# Altium footprint library HC-49.PcbLib: 3 footprints
Each footprint in its own frame and in the unit in brackets; x right, y up, seen from the top. Pads: shape width x height; smd on the part's side, far side on the other; paste and mask are expansions set on the pad; w line width, h text height; cw(c..) or ccw(c..) is an arc to the next point about the centre after c.
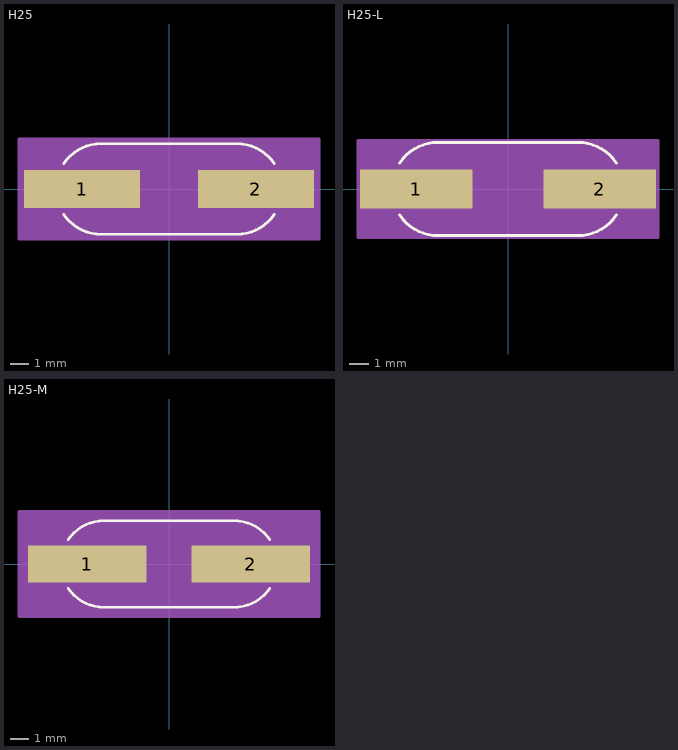
[diagram p0: the footprints below, top view; thin cyan lines are the x and y axes]

## H25 [mil]
pads (2):
  rect 243x80 smd: 1(-181.5,0) 2(181.5,0)
Top Overlay:
  lines w6: -219.67,-53.1 ccw(c-141.5,0) -141.5,-94.5 141.5,-94.5 ccw(c141.5,0) 219.67,-53.1 ; -219.67,53.1 cw(c-141.5,0) -141.5,94.5 141.5,94.5 cw(c141.5,0) 219.67,53.1
Mechanical 13:
  circle w0: c-292,0 r3
  lines w0: -141.5,-94.5 cw(c-141.5,0) -141.5,94.5 ; -141.5,-74.5 cw(c-141.5,0) -141.5,74.5 ; 141.5,-94.5 ccw(c141.5,0) 141.5,94.5 ; 141.5,-74.5 ccw(c141.5,0) 141.5,74.5
Mechanical 15:
  region: 313,-104.5 -313,-104.5 -313,104.5 313,104.5
  lines w6: -313,-104.5 -313,104.5 313,104.5 313,-104.5 -313,-104.5
3D body "H25.stp": height 152, standoff 0, extent -296.99,-94.5 297.01,94.5

## H25-L [mil]
pads (2):
  rect 228x80 smd: 1(-186,0) 2(186,0)
Top Overlay:
  lines w6: -219.67,-53.1 ccw(c-141.5,0) -141.5,-94.5 141.5,-94.5 ccw(c141.5,0) 219.67,-53.1 ; -219.67,53.1 cw(c-141.5,0) -141.5,94.5 141.5,94.5 cw(c141.5,0) 219.67,53.1
Mechanical 13:
  circle w0: c-292,0 r3
  lines w0: -141.5,-94.5 cw(c-141.5,0) -141.5,94.5 ; -141.5,-74.5 cw(c-141.5,0) -141.5,74.5 ; 141.5,-94.5 ccw(c141.5,0) 141.5,94.5 ; 141.5,-74.5 ccw(c141.5,0) 141.5,74.5
Mechanical 15:
  region: 304,-98.5 -304,-98.5 -304,98.5 304,98.5
  lines w6: -304,-98.5 -304,98.5 304,98.5 304,-98.5 -304,-98.5
3D body "H25.stp": height 152, standoff 0, extent -296.99,-94.5 297.01,94.5

## H25-M [mil]
pads (2):
  rect 258x80 smd: 1(-178,0) 2(178,0)
Top Overlay:
  lines w6: -219.67,-53.1 ccw(c-141.5,0) -141.5,-94.5 141.5,-94.5 ccw(c141.5,0) 219.67,-53.1 ; -219.67,53.1 cw(c-141.5,0) -141.5,94.5 141.5,94.5 cw(c141.5,0) 219.67,53.1
Mechanical 13:
  circle w0: c-292,0 r3
  lines w0: -141.5,-94.5 cw(c-141.5,0) -141.5,94.5 ; -141.5,-74.5 cw(c-141.5,0) -141.5,74.5 ; 141.5,-94.5 ccw(c141.5,0) 141.5,94.5 ; 141.5,-74.5 ccw(c141.5,0) 141.5,74.5
Mechanical 15:
  region: 327,-114.5 -327,-114.5 -327,114.5 327,114.5
  lines w6: -327,-114.5 327,-114.5 327,114.5 -327,114.5 -327,-114.5
3D body "H25.stp": height 152, standoff 0, extent -297,-94.5 297,94.5